# Altium schematic symbol library Schlib_NKK_Switches.SchLib: 3 symbols
Pins are listed as number, name and electrical type; pins without a type are passive.

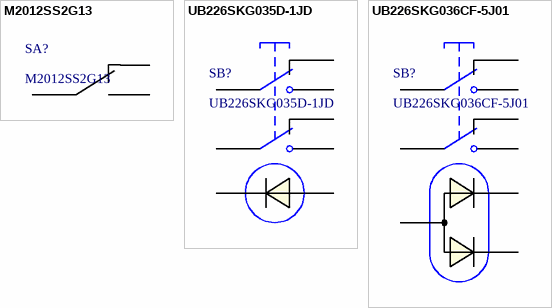
[diagram p0: symbols M2012SS2G13 to UB226SKG036CF-5J01]

## M2012SS2G13
designator SA?
Switch toggle SPDT 0.4VA 28V; Manufacturer: NKK Switches; PartNumber: M2012SS2G13
footprint M2012SS2G13
pins: 1, 2, 3

## UB226SKG035D-1JD
designator SB?
Switch push DPDT 0.4VA 28V; Manufacturer: NKK Switches; PartNumber: UB226SKG035D-1JD
footprint UB226SKG035D-1JD
pins: 1, 2, 3, 4, 5, 6, LA, LC

## UB226SKG036CF-5J01
designator SB?
Switch push DPDT 0.4VA 28V; Manufacturer: NKK Switches; PartNumber: UB226SKG036CF-5J01
footprint UB226SKG036CF-5J01
pins: 1, 2, 3, 4, 5, 6, LA1, LA2, LC